# Altium schematic symbol library DIODE_SMD.SchLib: 9 symbols
Pins are listed as number, name and electrical type; pins without a type are passive.

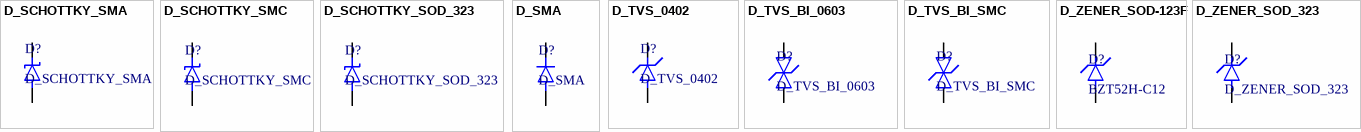
[diagram p0: symbols D_SCHOTTKY_SMA to D_ZENER_SOD_323]

## D_SCHOTTKY_SMA
designator D?
Diode Schottky SMD SMA (DO-214AA)
footprint DO-214AC-2 (SMA)
pins: A, K

## D_SCHOTTKY_SMC
designator D?
Diode Schottky SMD SMC (DO-214AB); Distributor Link: *
footprint SMC-DO-214AB
pins: A, K

## D_SCHOTTKY_SOD_323
designator D?
Diode Schottky SMD SOD-323
footprint SOD-323
pins: A, K

## D_SMA
designator D?
Diode SMD SMA (DO-214AA)
footprint DO-214AC-2 (SMA)
pins: A, K

## D_TVS_0402
designator D?
Diode TVS / ESD 0402
footprint DO_0402
pins: A, K

## D_TVS_BI_0603
designator D?
Diode TVS / ESD Bidirectional 0603; Manufacturer: *; Manufacturer Part Number: *
footprint D_0603
pins: A, K

## D_TVS_BI_SMC
designator D?
Diode TVS / ESD Bidirectional SMC (DO-214AB); Manufacturer: *; Manufacturer Part Number: *; Distributor Link: *
footprint SMC-DO-214AB
pins: A, K

## D_ZENER_SOD-123F
designator D?, comment BZT52H-C12
Diode Zener 12V 375mW SOD-123F; Supplier URL: N/A
footprint PKG_SOD-123F (SODFL, 2-Leads, Body 1.60x3.50mm, IPC Medium Density)
pins: A, K

## D_ZENER_SOD_323
designator D?
Diode Zener SMD SOD-323; Supplier URL: N/A
footprint SOD-323
pins: A, K